# EAGLE library part TJS-001NS-A1 (library Taimag)
Taimag TJS-001NS-A1 vertical RJ45 without transformer
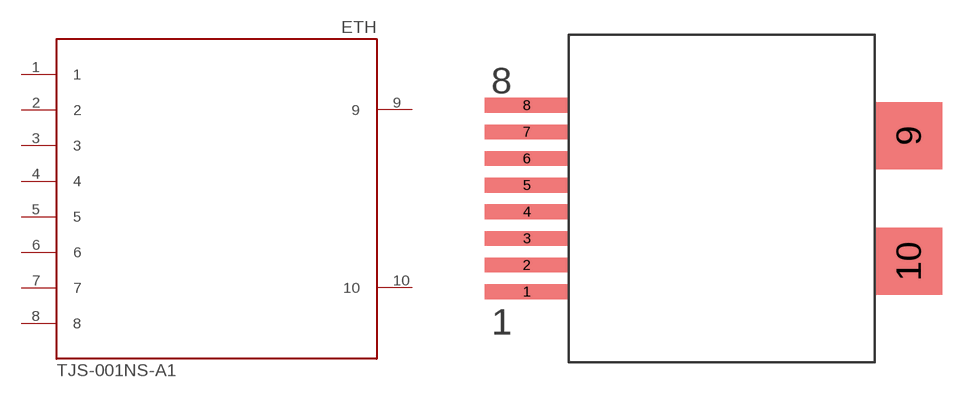
[diagram p2: symbol with the pads of RJ45_VERTICAL; footprint RJ45_VERTICAL]

Designator prefix ETH

## TJS-001NS-A1  [RJ45_VERTICAL]
1  1
2  2
3  3
4  4
5  5
6  6
7  7
8  8
9  9
10  10

## Footprint RJ45_VERTICAL (pad centres in mm)
smd 4 x 0.7: 1 -9.3,-4.445; 2 -9.3,-3.175; 3 -9.3,-1.905; 4 -9.3,-0.635; 5 -9.3,0.635; 6 -9.3,1.905; 7 -9.3,3.175; 8 -9.3,4.445
smd 3.2 x 3.2: 9 8.9,3; 10 8.9,-3